# EAGLE library part 65*51 (library commodore)
ACIA. Capable of RS-232
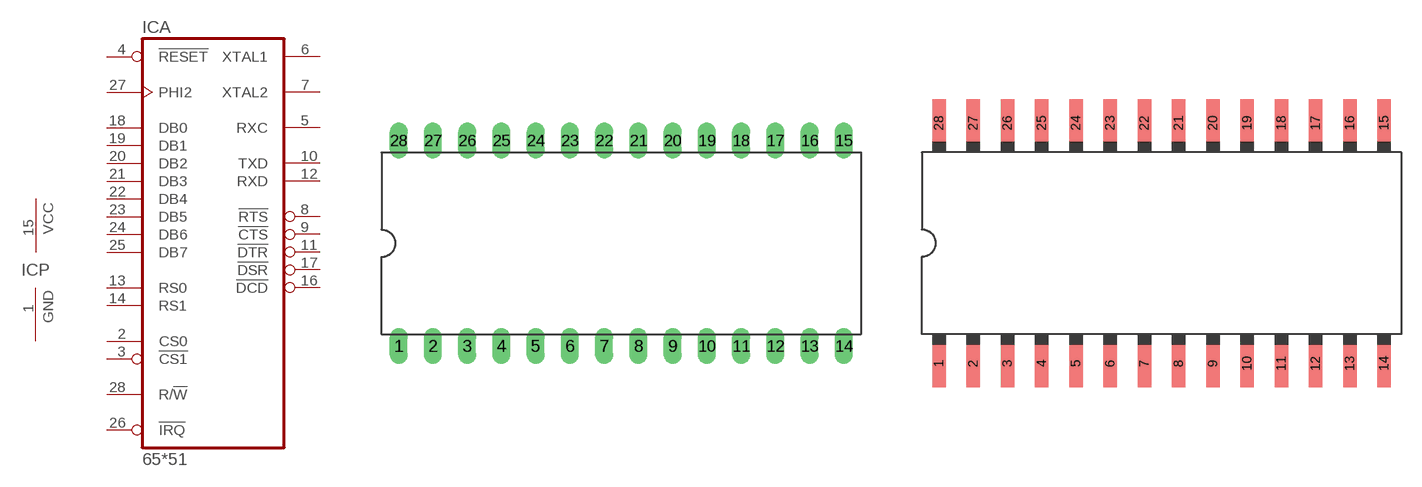
[diagram p45: symbol with the pads of DIL28; footprints DIL28, DIL28-SMD]

Designator prefix IC; gates A=6551 P=PWR-GND

## 6551N  [DIL28]
1  P:GND  pwr
2  A:CS0  in
3  A:!CS1  in
4  A:!RESET  in
5  A:RXC
6  A:XTAL1
7  A:XTAL2
8  A:!RTS  out
9  A:!CTS  in
10  A:TXD  out
11  A:!DTR  out
12  A:RXD  in
13  A:RS0  in
14  A:RS1  in
15  P:VCC  pwr
16  A:!DCD  in
17  A:!DSR  in
18  A:DB0
19  A:DB1
20  A:DB2
21  A:DB3
22  A:DB4
23  A:DB5
24  A:DB6
25  A:DB7
26  A:!IRQ  oc
27  A:PHI2  in
28  A:R/!W  in

## 6551NST  [DIL28-SMD]
Pads as for DIL28

## 6551NSB  [DIL28-SMD-REVERSE]
Pads as for DIL28

## 6551NR  [DIL28-ROUNDPAD]
Pads as for DIL28

## Footprint DIL28 (pad centres in mm)
Dual In Line Package
drill 0.813 long: 1 -16.51,-7.62; 2 -13.97,-7.62; 3 -11.43,-7.62; 4 -8.89,-7.62; 5 -6.35,-7.62; 6 -3.81,-7.62; 7 -1.27,-7.62; 8 1.27,-7.62; 9 3.81,-7.62; 10 6.35,-7.62; 11 8.89,-7.62; 12 11.43,-7.62; 13 13.97,-7.62; 14 16.51,-7.62; 15 16.51,7.62; 16 13.97,7.62; 17 11.43,7.62; 18 8.89,7.62; 19 6.35,7.62; 20 3.81,7.62; 21 1.27,7.62; 22 -1.27,7.62; 23 -3.81,7.62; 24 -6.35,7.62; 25 -8.89,7.62; 26 -11.43,7.62; 27 -13.97,7.62; 28 -16.51,7.62

## Footprint DIL28-SMD (pad centres in mm)
smd 1 x 3.5: 1 -16.51,-8.92; 2 -13.97,-8.92; 3 -11.43,-8.92; 4 -8.89,-8.92; 5 -6.35,-8.92; 6 -3.81,-8.92; 7 -1.27,-8.92; 8 1.27,-8.92; 9 3.81,-8.92; 10 6.35,-8.92; 11 8.89,-8.92; 12 11.43,-8.92; 13 13.97,-8.92; 14 16.51,-8.92; 15 16.51,8.92; 16 13.97,8.92; 17 11.43,8.92; 18 8.89,8.92; 19 6.35,8.92; 20 3.81,8.92; 21 1.27,8.92; 22 -1.27,8.92; 23 -3.81,8.92; 24 -6.35,8.92; 25 -8.89,8.92; 26 -11.43,8.92; 27 -13.97,8.92; 28 -16.51,8.92

## Footprint DIL28-SMD-REVERSE (pad centres in mm)
smd 1 x 3.5 bottom: 1 -16.51,-8.92; 2 -13.97,-8.92; 3 -11.43,-8.92; 4 -8.89,-8.92; 5 -6.35,-8.92; 6 -3.81,-8.92; 7 -1.27,-8.92; 8 1.27,-8.92; 9 3.81,-8.92; 10 6.35,-8.92; 11 8.89,-8.92; 12 11.43,-8.92; 13 13.97,-8.92; 14 16.51,-8.92; 15 16.51,8.92; 16 13.97,8.92; 17 11.43,8.92; 18 8.89,8.92; 19 6.35,8.92; 20 3.81,8.92; 21 1.27,8.92; 22 -1.27,8.92; 23 -3.81,8.92; 24 -6.35,8.92; 25 -8.89,8.92; 26 -11.43,8.92; 27 -13.97,8.92; 28 -16.51,8.92

## Footprint DIL28-ROUNDPAD (pad centres in mm)
Dual In Line Package
drill 0.813 square: 1 -16.51,-7.62
drill 0.813: 2 -13.97,-7.62; 3 -11.43,-7.62; 4 -8.89,-7.62; 5 -6.35,-7.62; 6 -3.81,-7.62; 7 -1.27,-7.62; 8 1.27,-7.62; 9 3.81,-7.62; 10 6.35,-7.62; 11 8.89,-7.62; 12 11.43,-7.62; 13 13.97,-7.62; 14 16.51,-7.62; 15 16.51,7.62; 16 13.97,7.62; 17 11.43,7.62; 18 8.89,7.62; 19 6.35,7.62; 20 3.81,7.62; 21 1.27,7.62; 22 -1.27,7.62; 23 -3.81,7.62; 24 -6.35,7.62; 25 -8.89,7.62; 26 -11.43,7.62; 27 -13.97,7.62; 28 -16.51,7.62